# Altium schematic symbol library PICkit3 interface.SchLib: 2 symbols
Pins are listed as number, name and electrical type; pins without a type are passive.

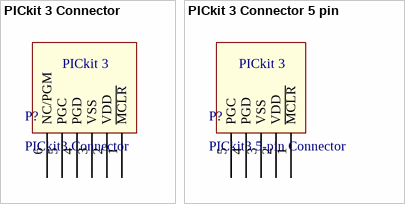
[diagram p0: symbols PICkit 3 Connector to PICkit 3 Connector 5 pin]

## PICkit 3 Connector
designator P?, comment PICkit3 Connector
PICkit 3 Connector
footprint Straight PICkit Connector
footprint Right Angle PICkit Connector
footprint PICkit probe pads (Pads for PICkit3 ICSP)
pins: 1 ~{MCLR}, 2 VDD, 3 VSS, 4 PGD, 5 PGC, 6 NC/PGM
text: PICkit 3

## PICkit 3 Connector 5 pin
designator P?, comment PICkit3 5-pin Connector
PICkit 3 Connector
footprint PICkit probe pads 5 (Pads for PICkit3 ICSP, no LVP)
footprint PICkit probe pads 5 no arrow (Pads for PICkit3 ICSP, no LVP)
pins: 1 ~{MCLR}, 2 VDD, 3 VSS, 4 PGD, 5 PGC
text: PICkit 3